# EAGLE library part MILLI-GRID-42 (library con-molex)
Milli-Grid Pin Header 2.00mm (.079") Pitch
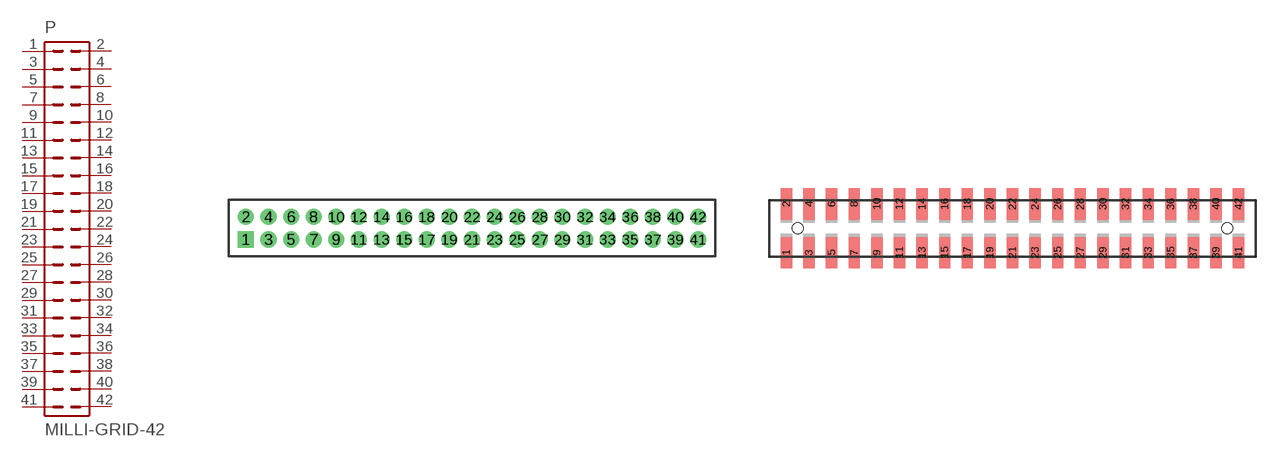
[diagram p69: symbol with the pads of 87758-42; footprints 87758-42, 87759-42]

Designator prefix P

## MILLI-GRID-42-87758  [87758-42]
1  1  pas
2  2  pas
3  3  pas
4  4  pas
5  5  pas
6  6  pas
7  7  pas
8  8  pas
9  9  pas
10  10  pas
11  11  pas
12  12  pas
13  13  pas
14  14  pas
15  15  pas
16  16  pas
17  17  pas
18  18  pas
19  19  pas
20  20  pas
21  21  pas
22  22  pas
23  23  pas
24  24  pas
25  25  pas
26  26  pas
27  27  pas
28  28  pas
29  29  pas
30  30  pas
31  31  pas
32  32  pas
33  33  pas
34  34  pas
35  35  pas
36  36  pas
37  37  pas
38  38  pas
39  39  pas
40  40  pas
41  41  pas
42  42  pas

## MILLI-GRID-42-87759  [87759-42]
Pads as for 87758-42

## MILLI-GRID-42-87264  [87264-42]
Pads as for 87758-42

## MILLI-GRID-42-87368  [87368-42]
Pads as for 87758-42

## Footprint 87758-42 (pad centres in mm)
PCB Pin Headers 2.00mm (.079") Pitch Milli-Grid Header, Vertical
drill 0.914 square: 1 -20,-1
drill 0.914: 2 -20,1; 3 -18,-1; 4 -18,1; 5 -16,-1; 6 -16,1; 7 -14,-1; 8 -14,1; 9 -12,-1; 10 -12,1; 11 -10,-1; 12 -10,1; 13 -8,-1; 14 -8,1; 15 -6,-1; 16 -6,1; 17 -4,-1; 18 -4,1; 19 -2,-1; 20 -2,1; 21 0,-1; 22 0,1; 23 2,-1; 24 2,1; 25 4,-1; 26 4,1; 27 6,-1; 28 6,1; 29 8,-1; 30 8,1; 31 10,-1; 32 10,1; 33 12,-1; 34 12,1; 35 14,-1; 36 14,1; 37 16,-1; 38 16,1; 39 18,-1; 40 18,1; 41 20,-1; 42 20,1

## Footprint 87759-42 (pad centres in mm)
PCB Pin Headers 2.00mm (.079") Pitch Milli-Grid Header, Vertical SMD
smd 1 x 2.75: 1 -20,-2.15; 2 -20,2.15; 3 -18,-2.15; 4 -18,2.15; 5 -16,-2.15; 6 -16,2.15; 7 -14,-2.15; 8 -14,2.15; 9 -12,-2.15; 10 -12,2.15; 11 -10,-2.15; 12 -10,2.15; 13 -8,-2.15; 14 -8,2.15; 15 -6,-2.15; 16 -6,2.15; 17 -4,-2.15; 18 -4,2.15; 19 -2,-2.15; 20 -2,2.15; 21 0,-2.15; 22 0,2.15; 23 2,-2.15; 24 2,2.15; 25 4,-2.15; 26 4,2.15; 27 6,-2.15; 28 6,2.15; 29 8,-2.15; 30 8,2.15; 31 10,-2.15; 32 10,2.15; 33 12,-2.15; 34 12,2.15; 35 14,-2.15; 36 14,2.15; 37 16,-2.15; 38 16,2.15; 39 18,-2.15; 40 18,2.15; 41 20,-2.15; 42 20,2.15
hole 1 at -19,0
hole 1 at 19,0

## Footprint 87264-42 (pad centres in mm)
Board-To-Board Receptacal 2.00mm (.079") Pitch Milli-Grid Header, Side Entry Mates with 2mm(.079") Mill-Grid Header
drill 0.914 square: 1 -20,-2.25
drill 0.914: 2 -20,2.25; 3 -18,-2.25; 4 -18,2.25; 5 -16,-2.25; 6 -16,2.25; 7 -14,-2.25; 8 -14,2.25; 9 -12,-2.25; 10 -12,2.25; 11 -10,-2.25; 12 -10,2.25; 13 -8,-2.25; 14 -8,2.25; 15 -6,-2.25; 16 -6,2.25; 17 -4,-2.25; 18 -4,2.25; 19 -2,-2.25; 20 -2,2.25; 21 0,-2.25; 22 0,2.25; 23 2,-2.25; 24 2,2.25; 25 4,-2.25; 26 4,2.25; 27 6,-2.25; 28 6,2.25; 29 8,-2.25; 30 8,2.25; 31 10,-2.25; 32 10,2.25; 33 12,-2.25; 34 12,2.25; 35 14,-2.25; 36 14,2.25; 37 16,-2.25; 38 16,2.25; 39 18,-2.25; 40 18,2.25; 41 20,-2.25; 42 20,2.25

## Footprint 87368-42 (pad centres in mm)
Board-To-Board Receptacal 2.00mm (.079") Pitch Milli-Grid Header, Side Entry SMD Mates with 2mm(.079") Mill-Grid Header
smd 1 x 2.8: 1 -20,-3.1; 2 -20,3.1; 3 -18,-3.1; 4 -18,3.1; 5 -16,-3.1; 6 -16,3.1; 7 -14,-3.1; 8 -14,3.1; 9 -12,-3.1; 10 -12,3.1; 11 -10,-3.1; 12 -10,3.1; 13 -8,-3.1; 14 -8,3.1; 15 -6,-3.1; 16 -6,3.1; 17 -4,-3.1; 18 -4,3.1; 19 -2,-3.1; 20 -2,3.1; 21 0,-3.1; 22 0,3.1; 23 2,-3.1; 24 2,3.1; 25 4,-3.1; 26 4,3.1; 27 6,-3.1; 28 6,3.1; 29 8,-3.1; 30 8,3.1; 31 10,-3.1; 32 10,3.1; 33 12,-3.1; 34 12,3.1; 35 14,-3.1; 36 14,3.1; 37 16,-3.1; 38 16,3.1; 39 18,-3.1; 40 18,3.1; 41 20,-3.1; 42 20,3.1
hole 0.914 at -20,0
hole 0.914 at 0,0